# EAGLE library part LL7101 (library lundahl)
LL7101
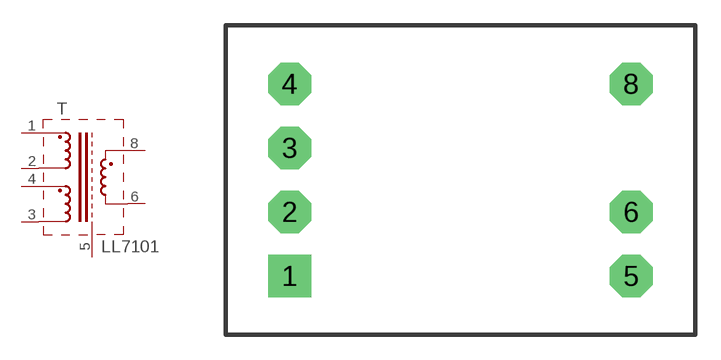
[diagram p21: symbol with the pads of LL7101; footprint LL7101]

Designator prefix T

## LL7101  [LL7101]
1  1  pas
2  2  pas
3  3  pas
4  4  pas
5  5  pas
6  6  pas
8  8  pas

## Footprint LL7101 (pad centres in mm)
LL7101
drill 1.422 pad 2.54 square: 1 -10.16,-5.715
drill 1.422 pad 2.54 octagon: 2 -10.16,-1.905; 3 -10.16,1.905; 4 -10.16,5.715; 5 10.16,-5.715; 6 10.16,-1.905; 8 10.16,5.715